# Altium integrated library 1879229-4.IntLib: 1 symbol
Pins are listed as number, name and electrical type; pins without a type are passive.

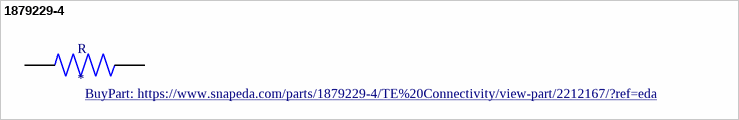
[diagram p0: symbol 1879229-4]

## 1879229-4
designator R
Res 1206 10 Ohm 5% 1/8W Â±500ppm/Â°C Molded SMD SMD T/R; MP: 1879229-4; Power_Rating: .125 W; Resistance: 10; MF: TE Connectivity; Package: 1206; Arrow_Electronics-Purchase-URL: https://snapeda.com/shop?store=Arrow+Electronics&id=2212167; Tolerance: 5%; EU_RoHS_Compliance: Compliant with Exemptions; Price: None; Value: *; Availability: Warning; SnapEDA_Link: https://www.snapeda.com/parts/1879229-4/TE%20Connectivity/view-part/2212167/?ref=snap; BuyPart: https://www.snapeda.com/parts/1879229-4/TE%20Connectivity/view-part/2212167/?ref=eda
footprint RESC3115X65N
pins: 1, 2